# Altium schematic symbol library kmilo17pet-LT_OpAmp_LT2000.SchLib: 1710 symbols (part 46 of 75)
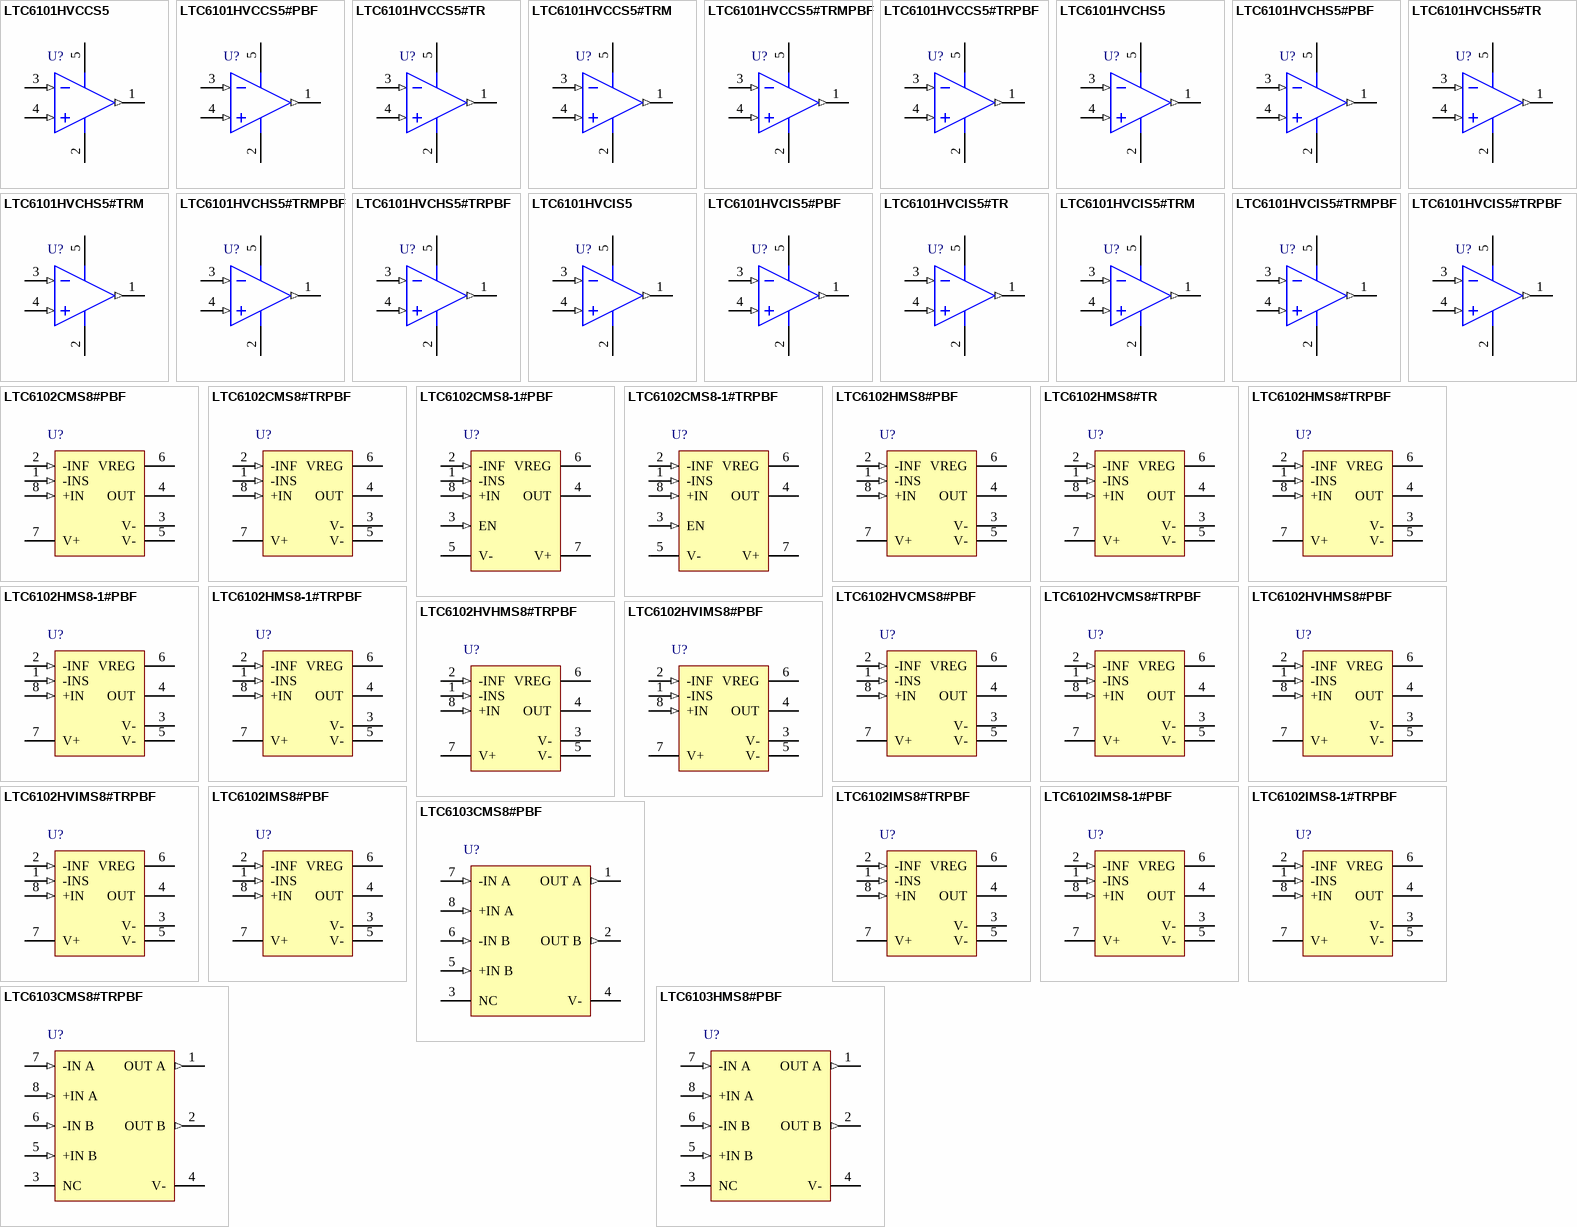
[diagram p125: symbols LTC6101HVCCS5 to LTC6103HMS8#PBF]

## LTC6101HVCHS5#PBF
designator U?
Single Channel, High Voltage, High-Side Current Sense Operational Amplifier, 0.2 MHz Typical GBW, 4 to 60 V, 5-Pin SOT23 (S5-5), High Temperature / Automotive, Pb-Free; Linear Technology Part Number: LTC6101HV; Manufacturer: Linear Technology; PartNumber: LTC6101HVCHS5#PBF; Channels (#): 1; GBW (MHz) Typical: 0.2; Is (mA) Typical: 0.22; Vos (mV) Typical: 0.15; Vs Max (V): 60; Vs Min (V): 4; DatasheetVersion: Rev. H; PackageReference: LT-S5-5-TSOT-23; PackageDescription: 5-Lead Plastic TSOT-23, Body 1.63 x 2.90 mm, Pitch 0.95 mm; RoHS: Pb-Free; Type: CSA; Mounting Technology: Surface Mount; Code_JEDEC: MO-193; ComponentLink1Description: Manufacturer URL; ComponentLink1URL: http://www.linear.com/; ComponentLink2Description: Datasheet; ComponentLink2URL: http://cds.linear.com/docs/en/datasheet/6101fh.pdf; ComponentLink3Description: Package Specification; ComponentLink3URL: http://cds.linear.com/docs/en/packaging/SOT_5_05-08-1635.pdf
footprint LT-S5-5-TSOT-23_N (SOT23, 5-Leads, Body 2.90x1.63mm, Pitch 0.95mm, IPC Medium Density)
footprint LT-S5-5-TSOT-23_L (SOT23, 5-Leads, Body 2.90x1.63mm, Pitch 0.95mm, IPC High Density)
footprint LT-S5-5-TSOT-23_M (SOT23, 5-Leads, Body 2.90x1.63mm, Pitch 0.95mm, IPC Low Density)
pins: 1 OUT (out) "Current Output. OUT will source a current that is proportional to the sense voltage into an external resistor", 2 V- (power) "Normally Connected to Ground", 3 -IN (in) "The internal sense amplifi er will drive -IN to the same potential as +IN. A resistor (RIN) tied from V+ to -IN sets the output current IOUT = VSENSE/RIN. VSENSE is the voltage developed across RSENSE", 4 +IN (in) "Must be tied to the system load end of the sense resistor, either directly or through a resistor", 5 V+ (power) "Positive Supply Pin. The V+ pin should be connected directly to either side of the sense resistor, RSENSE. Supply current is drawn through this pin. The circuit may be confi gured so that the LT6106 supply current is or is (See Datasheet)"

## LTC6101HVCHS5#TR
designator U?
Single Channel, High Voltage, High-Side Current Sense Operational Amplifier, 0.2 MHz Typical GBW, 4 to 60 V, 5-Pin SOT23 (S5-5), High Temperature / Automotive, Reel; Linear Technology Part Number: LTC6101HV; Manufacturer: Linear Technology; PartNumber: LTC6101HVCHS5#TR; Channels (#): 1; GBW (MHz) Typical: 0.2; Is (mA) Typical: 0.22; Vos (mV) Typical: 0.15; Vs Max (V): 60; Vs Min (V): 4; DatasheetVersion: Rev. H; PackageReference: LT-S5-5-TSOT-23; PackageDescription: 5-Lead Plastic TSOT-23, Body 1.63 x 2.90 mm, Pitch 0.95 mm; Packing: Reel; Type: CSA; Mounting Technology: Surface Mount; Code_JEDEC: MO-193; ComponentLink1Description: Manufacturer URL; ComponentLink1URL: http://www.linear.com/; ComponentLink2Description: Datasheet; ComponentLink2URL: http://cds.linear.com/docs/en/datasheet/6101fh.pdf; ComponentLink3Description: Package Specification; ComponentLink3URL: http://cds.linear.com/docs/en/packaging/SOT_5_05-08-1635.pdf
footprint LT-S5-5-TSOT-23_N (SOT23, 5-Leads, Body 2.90x1.63mm, Pitch 0.95mm, IPC Medium Density)
footprint LT-S5-5-TSOT-23_L (SOT23, 5-Leads, Body 2.90x1.63mm, Pitch 0.95mm, IPC High Density)
footprint LT-S5-5-TSOT-23_M (SOT23, 5-Leads, Body 2.90x1.63mm, Pitch 0.95mm, IPC Low Density)
pins: 1 OUT (out) "Current Output. OUT will source a current that is proportional to the sense voltage into an external resistor", 2 V- (power) "Normally Connected to Ground", 3 -IN (in) "The internal sense amplifi er will drive -IN to the same potential as +IN. A resistor (RIN) tied from V+ to -IN sets the output current IOUT = VSENSE/RIN. VSENSE is the voltage developed across RSENSE", 4 +IN (in) "Must be tied to the system load end of the sense resistor, either directly or through a resistor", 5 V+ (power) "Positive Supply Pin. The V+ pin should be connected directly to either side of the sense resistor, RSENSE. Supply current is drawn through this pin. The circuit may be confi gured so that the LT6106 supply current is or is (See Datasheet)"

## LTC6101HVCHS5#TRM
designator U?
Single Channel, High Voltage, High-Side Current Sense Operational Amplifier, 0.2 MHz Typical GBW, 4 to 60 V, 5-Pin SOT23 (S5-5), High Temperature / Automotive, Mini Reel; Linear Technology Part Number: LTC6101HV; Manufacturer: Linear Technology; PartNumber: LTC6101HVCHS5#TRM; Channels (#): 1; GBW (MHz) Typical: 0.2; Is (mA) Typical: 0.22; Vos (mV) Typical: 0.15; Vs Max (V): 60; Vs Min (V): 4; DatasheetVersion: Rev. H; PackageReference: LT-S5-5-TSOT-23; PackageDescription: 5-Lead Plastic TSOT-23, Body 1.63 x 2.90 mm, Pitch 0.95 mm; Packing: Mini Reel; Type: CSA; Mounting Technology: Surface Mount; Code_JEDEC: MO-193; ComponentLink1Description: Manufacturer URL; ComponentLink1URL: http://www.linear.com/; ComponentLink2Description: Datasheet; ComponentLink2URL: http://cds.linear.com/docs/en/datasheet/6101fh.pdf; ComponentLink3Description: Package Specification; ComponentLink3URL: http://cds.linear.com/docs/en/packaging/SOT_5_05-08-1635.pdf
footprint LT-S5-5-TSOT-23_N (SOT23, 5-Leads, Body 2.90x1.63mm, Pitch 0.95mm, IPC Medium Density)
footprint LT-S5-5-TSOT-23_L (SOT23, 5-Leads, Body 2.90x1.63mm, Pitch 0.95mm, IPC High Density)
footprint LT-S5-5-TSOT-23_M (SOT23, 5-Leads, Body 2.90x1.63mm, Pitch 0.95mm, IPC Low Density)
pins: 1 OUT (out) "Current Output. OUT will source a current that is proportional to the sense voltage into an external resistor", 2 V- (power) "Normally Connected to Ground", 3 -IN (in) "The internal sense amplifi er will drive -IN to the same potential as +IN. A resistor (RIN) tied from V+ to -IN sets the output current IOUT = VSENSE/RIN. VSENSE is the voltage developed across RSENSE", 4 +IN (in) "Must be tied to the system load end of the sense resistor, either directly or through a resistor", 5 V+ (power) "Positive Supply Pin. The V+ pin should be connected directly to either side of the sense resistor, RSENSE. Supply current is drawn through this pin. The circuit may be confi gured so that the LT6106 supply current is or is (See Datasheet)"

## LTC6101HVCHS5#TRMPBF
designator U?
Single Channel, High Voltage, High-Side Current Sense Operational Amplifier, 0.2 MHz Typical GBW, 4 to 60 V, 5-Pin SOT23 (S5-5), High Temperature / Automotive, Pb-Free, Mini Reel; Linear Technology Part Number: LTC6101HV; Manufacturer: Linear Technology; PartNumber: LTC6101HVCHS5#TRMPBF; Channels (#): 1; GBW (MHz) Typical: 0.2; Is (mA) Typical: 0.22; Vos (mV) Typical: 0.15; Vs Max (V): 60; Vs Min (V): 4; DatasheetVersion: Rev. H; PackageReference: LT-S5-5-TSOT-23; PackageDescription: 5-Lead Plastic TSOT-23, Body 1.63 x 2.90 mm, Pitch 0.95 mm; Supplier 1: Digi-Key; Supplier Part Number 1: LTC6101HVCHS5#TRMPBF-ND; Packing: Mini Reel; RoHS: Pb-Free; Type: CSA; Mounting Technology: Surface Mount; Code_JEDEC: MO-193; ComponentLink1Description: Manufacturer URL; ComponentLink1URL: http://www.linear.com/; ComponentLink2Description: Datasheet; ComponentLink2URL: http://cds.linear.com/docs/en/datasheet/6101fh.pdf; ComponentLink3Description: Package Specification; ComponentLink3URL: http://cds.linear.com/docs/en/packaging/SOT_5_05-08-1635.pdf
footprint LT-S5-5-TSOT-23_N (SOT23, 5-Leads, Body 2.90x1.63mm, Pitch 0.95mm, IPC Medium Density)
footprint LT-S5-5-TSOT-23_L (SOT23, 5-Leads, Body 2.90x1.63mm, Pitch 0.95mm, IPC High Density)
footprint LT-S5-5-TSOT-23_M (SOT23, 5-Leads, Body 2.90x1.63mm, Pitch 0.95mm, IPC Low Density)
pins: 1 OUT (out) "Current Output. OUT will source a current that is proportional to the sense voltage into an external resistor", 2 V- (power) "Normally Connected to Ground", 3 -IN (in) "The internal sense amplifi er will drive -IN to the same potential as +IN. A resistor (RIN) tied from V+ to -IN sets the output current IOUT = VSENSE/RIN. VSENSE is the voltage developed across RSENSE", 4 +IN (in) "Must be tied to the system load end of the sense resistor, either directly or through a resistor", 5 V+ (power) "Positive Supply Pin. The V+ pin should be connected directly to either side of the sense resistor, RSENSE. Supply current is drawn through this pin. The circuit may be confi gured so that the LT6106 supply current is or is (See Datasheet)"

## LTC6101HVCHS5#TRPBF
designator U?
Single Channel, High Voltage, High-Side Current Sense Operational Amplifier, 0.2 MHz Typical GBW, 4 to 60 V, 5-Pin SOT23 (S5-5), High Temperature / Automotive, Pb-Free, Reel; Linear Technology Part Number: LTC6101HV; Manufacturer: Linear Technology; PartNumber: LTC6101HVCHS5#TRPBF; Channels (#): 1; GBW (MHz) Typical: 0.2; Is (mA) Typical: 0.22; Vos (mV) Typical: 0.15; Vs Max (V): 60; Vs Min (V): 4; DatasheetVersion: Rev. H; PackageReference: LT-S5-5-TSOT-23; PackageDescription: 5-Lead Plastic TSOT-23, Body 1.63 x 2.90 mm, Pitch 0.95 mm; Supplier 1: Digi-Key; Supplier Part Number 1: LTC6101HVCHS5#TRPBF-ND; Packing: Reel; RoHS: Pb-Free; Type: CSA; Mounting Technology: Surface Mount; Code_JEDEC: MO-193; ComponentLink1Description: Manufacturer URL; ComponentLink1URL: http://www.linear.com/; ComponentLink2Description: Datasheet; ComponentLink2URL: http://cds.linear.com/docs/en/datasheet/6101fh.pdf; ComponentLink3Description: Package Specification; ComponentLink3URL: http://cds.linear.com/docs/en/packaging/SOT_5_05-08-1635.pdf
footprint LT-S5-5-TSOT-23_N (SOT23, 5-Leads, Body 2.90x1.63mm, Pitch 0.95mm, IPC Medium Density)
footprint LT-S5-5-TSOT-23_L (SOT23, 5-Leads, Body 2.90x1.63mm, Pitch 0.95mm, IPC High Density)
footprint LT-S5-5-TSOT-23_M (SOT23, 5-Leads, Body 2.90x1.63mm, Pitch 0.95mm, IPC Low Density)
pins: 1 OUT (out) "Current Output. OUT will source a current that is proportional to the sense voltage into an external resistor", 2 V- (power) "Normally Connected to Ground", 3 -IN (in) "The internal sense amplifi er will drive -IN to the same potential as +IN. A resistor (RIN) tied from V+ to -IN sets the output current IOUT = VSENSE/RIN. VSENSE is the voltage developed across RSENSE", 4 +IN (in) "Must be tied to the system load end of the sense resistor, either directly or through a resistor", 5 V+ (power) "Positive Supply Pin. The V+ pin should be connected directly to either side of the sense resistor, RSENSE. Supply current is drawn through this pin. The circuit may be confi gured so that the LT6106 supply current is or is (See Datasheet)"

## LTC6101HVCIS5
designator U?
Single Channel, High Voltage, High-Side Current Sense Operational Amplifier, 0.2 MHz Typical GBW, 4 to 60 V, 5-Pin SOT23 (S5-5), Industrial; Linear Technology Part Number: LTC6101HV; Manufacturer: Linear Technology; PartNumber: LTC6101HVCIS5; Channels (#): 1; GBW (MHz) Typical: 0.2; Is (mA) Typical: 0.22; Vos (mV) Typical: 0.15; Vs Max (V): 60; Vs Min (V): 4; DatasheetVersion: Rev. H; PackageReference: LT-S5-5-TSOT-23; PackageDescription: 5-Lead Plastic TSOT-23, Body 1.63 x 2.90 mm, Pitch 0.95 mm; Type: CSA; Mounting Technology: Surface Mount; Code_JEDEC: MO-193; ComponentLink1Description: Manufacturer URL; ComponentLink1URL: http://www.linear.com/; ComponentLink2Description: Datasheet; ComponentLink2URL: http://cds.linear.com/docs/en/datasheet/6101fh.pdf; ComponentLink3Description: Package Specification; ComponentLink3URL: http://cds.linear.com/docs/en/packaging/SOT_5_05-08-1635.pdf
footprint LT-S5-5-TSOT-23_N (SOT23, 5-Leads, Body 2.90x1.63mm, Pitch 0.95mm, IPC Medium Density)
footprint LT-S5-5-TSOT-23_L (SOT23, 5-Leads, Body 2.90x1.63mm, Pitch 0.95mm, IPC High Density)
footprint LT-S5-5-TSOT-23_M (SOT23, 5-Leads, Body 2.90x1.63mm, Pitch 0.95mm, IPC Low Density)
pins: 1 OUT (out) "Current Output. OUT will source a current that is proportional to the sense voltage into an external resistor", 2 V- (power) "Normally Connected to Ground", 3 -IN (in) "The internal sense amplifi er will drive -IN to the same potential as +IN. A resistor (RIN) tied from V+ to -IN sets the output current IOUT = VSENSE/RIN. VSENSE is the voltage developed across RSENSE", 4 +IN (in) "Must be tied to the system load end of the sense resistor, either directly or through a resistor", 5 V+ (power) "Positive Supply Pin. The V+ pin should be connected directly to either side of the sense resistor, RSENSE. Supply current is drawn through this pin. The circuit may be confi gured so that the LT6106 supply current is or is (See Datasheet)"

## LTC6101HVCIS5#PBF
designator U?
Single Channel, High Voltage, High-Side Current Sense Operational Amplifier, 0.2 MHz Typical GBW, 4 to 60 V, 5-Pin SOT23 (S5-5), Industrial, Pb-Free; Linear Technology Part Number: LTC6101HV; Manufacturer: Linear Technology; PartNumber: LTC6101HVCIS5#PBF; Channels (#): 1; GBW (MHz) Typical: 0.2; Is (mA) Typical: 0.22; Vos (mV) Typical: 0.15; Vs Max (V): 60; Vs Min (V): 4; DatasheetVersion: Rev. H; PackageReference: LT-S5-5-TSOT-23; PackageDescription: 5-Lead Plastic TSOT-23, Body 1.63 x 2.90 mm, Pitch 0.95 mm; Supplier 1: Farnell; Supplier Part Number 1: 2294767; Supplier 2: Newark; Supplier Part Number 2: 78T3458; RoHS: Pb-Free; Type: CSA; Mounting Technology: Surface Mount; Code_JEDEC: MO-193; ComponentLink1Description: Manufacturer URL; ComponentLink1URL: http://www.linear.com/; ComponentLink2Description: Datasheet; ComponentLink2URL: http://cds.linear.com/docs/en/datasheet/6101fh.pdf; ComponentLink3Description: Package Specification; ComponentLink3URL: http://cds.linear.com/docs/en/packaging/SOT_5_05-08-1635.pdf
footprint LT-S5-5-TSOT-23_N (SOT23, 5-Leads, Body 2.90x1.63mm, Pitch 0.95mm, IPC Medium Density)
footprint LT-S5-5-TSOT-23_L (SOT23, 5-Leads, Body 2.90x1.63mm, Pitch 0.95mm, IPC High Density)
footprint LT-S5-5-TSOT-23_M (SOT23, 5-Leads, Body 2.90x1.63mm, Pitch 0.95mm, IPC Low Density)
pins: 1 OUT (out) "Current Output. OUT will source a current that is proportional to the sense voltage into an external resistor", 2 V- (power) "Normally Connected to Ground", 3 -IN (in) "The internal sense amplifi er will drive -IN to the same potential as +IN. A resistor (RIN) tied from V+ to -IN sets the output current IOUT = VSENSE/RIN. VSENSE is the voltage developed across RSENSE", 4 +IN (in) "Must be tied to the system load end of the sense resistor, either directly or through a resistor", 5 V+ (power) "Positive Supply Pin. The V+ pin should be connected directly to either side of the sense resistor, RSENSE. Supply current is drawn through this pin. The circuit may be confi gured so that the LT6106 supply current is or is (See Datasheet)"

## LTC6101HVCIS5#TR
designator U?
Single Channel, High Voltage, High-Side Current Sense Operational Amplifier, 0.2 MHz Typical GBW, 4 to 60 V, 5-Pin SOT23 (S5-5), Industrial, Reel; Linear Technology Part Number: LTC6101HV; Manufacturer: Linear Technology; PartNumber: LTC6101HVCIS5#TR; Channels (#): 1; GBW (MHz) Typical: 0.2; Is (mA) Typical: 0.22; Vos (mV) Typical: 0.15; Vs Max (V): 60; Vs Min (V): 4; DatasheetVersion: Rev. H; PackageReference: LT-S5-5-TSOT-23; PackageDescription: 5-Lead Plastic TSOT-23, Body 1.63 x 2.90 mm, Pitch 0.95 mm; Packing: Reel; Type: CSA; Mounting Technology: Surface Mount; Code_JEDEC: MO-193; ComponentLink1Description: Manufacturer URL; ComponentLink1URL: http://www.linear.com/; ComponentLink2Description: Datasheet; ComponentLink2URL: http://cds.linear.com/docs/en/datasheet/6101fh.pdf; ComponentLink3Description: Package Specification; ComponentLink3URL: http://cds.linear.com/docs/en/packaging/SOT_5_05-08-1635.pdf
footprint LT-S5-5-TSOT-23_N (SOT23, 5-Leads, Body 2.90x1.63mm, Pitch 0.95mm, IPC Medium Density)
footprint LT-S5-5-TSOT-23_L (SOT23, 5-Leads, Body 2.90x1.63mm, Pitch 0.95mm, IPC High Density)
footprint LT-S5-5-TSOT-23_M (SOT23, 5-Leads, Body 2.90x1.63mm, Pitch 0.95mm, IPC Low Density)
pins: 1 OUT (out) "Current Output. OUT will source a current that is proportional to the sense voltage into an external resistor", 2 V- (power) "Normally Connected to Ground", 3 -IN (in) "The internal sense amplifi er will drive -IN to the same potential as +IN. A resistor (RIN) tied from V+ to -IN sets the output current IOUT = VSENSE/RIN. VSENSE is the voltage developed across RSENSE", 4 +IN (in) "Must be tied to the system load end of the sense resistor, either directly or through a resistor", 5 V+ (power) "Positive Supply Pin. The V+ pin should be connected directly to either side of the sense resistor, RSENSE. Supply current is drawn through this pin. The circuit may be confi gured so that the LT6106 supply current is or is (See Datasheet)"

## LTC6101HVCIS5#TRM
designator U?
Single Channel, High Voltage, High-Side Current Sense Operational Amplifier, 0.2 MHz Typical GBW, 4 to 60 V, 5-Pin SOT23 (S5-5), Industrial, Mini Reel; Linear Technology Part Number: LTC6101HV; Manufacturer: Linear Technology; PartNumber: LTC6101HVCIS5#TRM; Channels (#): 1; GBW (MHz) Typical: 0.2; Is (mA) Typical: 0.22; Vos (mV) Typical: 0.15; Vs Max (V): 60; Vs Min (V): 4; DatasheetVersion: Rev. H; PackageReference: LT-S5-5-TSOT-23; PackageDescription: 5-Lead Plastic TSOT-23, Body 1.63 x 2.90 mm, Pitch 0.95 mm; Packing: Mini Reel; Type: CSA; Mounting Technology: Surface Mount; Code_JEDEC: MO-193; ComponentLink1Description: Manufacturer URL; ComponentLink1URL: http://www.linear.com/; ComponentLink2Description: Datasheet; ComponentLink2URL: http://cds.linear.com/docs/en/datasheet/6101fh.pdf; ComponentLink3Description: Package Specification; ComponentLink3URL: http://cds.linear.com/docs/en/packaging/SOT_5_05-08-1635.pdf
footprint LT-S5-5-TSOT-23_N (SOT23, 5-Leads, Body 2.90x1.63mm, Pitch 0.95mm, IPC Medium Density)
footprint LT-S5-5-TSOT-23_L (SOT23, 5-Leads, Body 2.90x1.63mm, Pitch 0.95mm, IPC High Density)
footprint LT-S5-5-TSOT-23_M (SOT23, 5-Leads, Body 2.90x1.63mm, Pitch 0.95mm, IPC Low Density)
pins: 1 OUT (out) "Current Output. OUT will source a current that is proportional to the sense voltage into an external resistor", 2 V- (power) "Normally Connected to Ground", 3 -IN (in) "The internal sense amplifi er will drive -IN to the same potential as +IN. A resistor (RIN) tied from V+ to -IN sets the output current IOUT = VSENSE/RIN. VSENSE is the voltage developed across RSENSE", 4 +IN (in) "Must be tied to the system load end of the sense resistor, either directly or through a resistor", 5 V+ (power) "Positive Supply Pin. The V+ pin should be connected directly to either side of the sense resistor, RSENSE. Supply current is drawn through this pin. The circuit may be confi gured so that the LT6106 supply current is or is (See Datasheet)"

## LTC6101HVCIS5#TRMPBF
designator U?
Single Channel, High Voltage, High-Side Current Sense Operational Amplifier, 0.2 MHz Typical GBW, 4 to 60 V, 5-Pin SOT23 (S5-5), Industrial, Pb-Free, Mini Reel; Linear Technology Part Number: LTC6101HV; Manufacturer: Linear Technology; PartNumber: LTC6101HVCIS5#TRMPBF; Channels (#): 1; GBW (MHz) Typical: 0.2; Is (mA) Typical: 0.22; Vos (mV) Typical: 0.15; Vs Max (V): 60; Vs Min (V): 4; DatasheetVersion: Rev. H; PackageReference: LT-S5-5-TSOT-23; PackageDescription: 5-Lead Plastic TSOT-23, Body 1.63 x 2.90 mm, Pitch 0.95 mm; Supplier 1: Digi-Key; Supplier Part Number 1: LTC6101HVCIS5#TRMPBF-ND; Packing: Mini Reel; RoHS: Pb-Free; Type: CSA; Mounting Technology: Surface Mount; Code_JEDEC: MO-193; ComponentLink1Description: Manufacturer URL; ComponentLink1URL: http://www.linear.com/; ComponentLink2Description: Datasheet; ComponentLink2URL: http://cds.linear.com/docs/en/datasheet/6101fh.pdf; ComponentLink3Description: Package Specification; ComponentLink3URL: http://cds.linear.com/docs/en/packaging/SOT_5_05-08-1635.pdf
footprint LT-S5-5-TSOT-23_N (SOT23, 5-Leads, Body 2.90x1.63mm, Pitch 0.95mm, IPC Medium Density)
footprint LT-S5-5-TSOT-23_L (SOT23, 5-Leads, Body 2.90x1.63mm, Pitch 0.95mm, IPC High Density)
footprint LT-S5-5-TSOT-23_M (SOT23, 5-Leads, Body 2.90x1.63mm, Pitch 0.95mm, IPC Low Density)
pins: 1 OUT (out) "Current Output. OUT will source a current that is proportional to the sense voltage into an external resistor", 2 V- (power) "Normally Connected to Ground", 3 -IN (in) "The internal sense amplifi er will drive -IN to the same potential as +IN. A resistor (RIN) tied from V+ to -IN sets the output current IOUT = VSENSE/RIN. VSENSE is the voltage developed across RSENSE", 4 +IN (in) "Must be tied to the system load end of the sense resistor, either directly or through a resistor", 5 V+ (power) "Positive Supply Pin. The V+ pin should be connected directly to either side of the sense resistor, RSENSE. Supply current is drawn through this pin. The circuit may be confi gured so that the LT6106 supply current is or is (See Datasheet)"

## LTC6101HVCIS5#TRPBF
designator U?
Single Channel, High Voltage, High-Side Current Sense Operational Amplifier, 0.2 MHz Typical GBW, 4 to 60 V, 5-Pin SOT23 (S5-5), Industrial, Pb-Free, Reel; Linear Technology Part Number: LTC6101HV; Manufacturer: Linear Technology; PartNumber: LTC6101HVCIS5#TRPBF; Channels (#): 1; GBW (MHz) Typical: 0.2; Is (mA) Typical: 0.22; Vos (mV) Typical: 0.15; Vs Max (V): 60; Vs Min (V): 4; DatasheetVersion: Rev. H; PackageReference: LT-S5-5-TSOT-23; PackageDescription: 5-Lead Plastic TSOT-23, Body 1.63 x 2.90 mm, Pitch 0.95 mm; Supplier 1: Digi-Key; Supplier Part Number 1: LTC6101HVCIS5#TRPBF-ND; Supplier 2: Newark; Supplier Part Number 2: 56M9923; Packing: Reel; RoHS: Pb-Free; Type: CSA; Mounting Technology: Surface Mount; Code_JEDEC: MO-193; ComponentLink1Description: Manufacturer URL; ComponentLink1URL: http://www.linear.com/; ComponentLink2Description: Datasheet; ComponentLink2URL: http://cds.linear.com/docs/en/datasheet/6101fh.pdf; ComponentLink3Description: Package Specification; ComponentLink3URL: http://cds.linear.com/docs/en/packaging/SOT_5_05-08-1635.pdf
footprint LT-S5-5-TSOT-23_N (SOT23, 5-Leads, Body 2.90x1.63mm, Pitch 0.95mm, IPC Medium Density)
footprint LT-S5-5-TSOT-23_L (SOT23, 5-Leads, Body 2.90x1.63mm, Pitch 0.95mm, IPC High Density)
footprint LT-S5-5-TSOT-23_M (SOT23, 5-Leads, Body 2.90x1.63mm, Pitch 0.95mm, IPC Low Density)
pins: 1 OUT (out) "Current Output. OUT will source a current that is proportional to the sense voltage into an external resistor", 2 V- (power) "Normally Connected to Ground", 3 -IN (in) "The internal sense amplifi er will drive -IN to the same potential as +IN. A resistor (RIN) tied from V+ to -IN sets the output current IOUT = VSENSE/RIN. VSENSE is the voltage developed across RSENSE", 4 +IN (in) "Must be tied to the system load end of the sense resistor, either directly or through a resistor", 5 V+ (power) "Positive Supply Pin. The V+ pin should be connected directly to either side of the sense resistor, RSENSE. Supply current is drawn through this pin. The circuit may be confi gured so that the LT6106 supply current is or is (See Datasheet)"

## LTC6102CMS8#PBF
designator U?
Single Channel, Precision, Zero Drift Current Sense Operational Amplifier, 0.14 MHz Typical GBW, 4 to 60 V, 8-Pin SOP (MS8-8), Commercial, Pb-Free; Linear Technology Part Number: LTC6102; Manufacturer: Linear Technology; PartNumber: LTC6102CMS8#PBF; Channels (#): 1; GBW (MHz) Typical: 0.14; Is (mA) Typical: 0.275; Vos (mV) Typical: 0.003; Vs Max (V): 60; Vs Min (V): 4; DatasheetVersion: Rev. D; PackageVersion: Rev G; PackageReference: LT-MS8-8; PackageDescription: 8-Lead Plastic Small Outline, Body 3.9 x 4.9 mm, Pitch 1.27 mm; Supplier 1: Digi-Key; Supplier Part Number 1: LTC6102CMS8#PBF-ND; Supplier 2: Farnell; Supplier Part Number 2: 1417725; Supplier 3: Newark; Supplier Part Number 3: 56M9926; RoHS: Pb-Free; Type: CSA; Mounting Technology: Surface Mount; ComponentLink1Description: Manufacturer URL; ComponentLink1URL: http://www.linear.com/; ComponentLink2Description: Datasheet; ComponentLink2URL: http://cds.linear.com/docs/en/datasheet/6102fd.pdf; ComponentLink3Description: Package Specification; ComponentLink3URL: http://cds.linear.com/docs/en/packaging/05081610_G_SO8.pdf
footprint LT-MS8-8_N (SOP, 8-Leads, Body 3x3mm, Pitch 0.65mm, IPC Medium Density)
footprint LT-MS8-8_L (SOP, 8-Leads, Body 3x3mm, Pitch 0.65mm, IPC High Density)
footprint LT-MS8-8_M (SOP, 8-Leads, Body 3x3mm, Pitch 0.65mm, IPC Low Density)
pins: 1 -INS (in) "Ampli? er Inverting Input. When tied to -INF, the internal sense ampli? er will drive -INS to the same potential as +IN.", 2 -INF (in) "Force Input. This pin carries the input current from RIN and must be tied to -INS near RIN. A resistor (RIN) tied from V+ to -INF sets the output current IOUT = VSENSE/RIN. VSENSE is the voltage across the external RSENSE.", 3 V- (power) "Negative Supply.", 4 OUT (oc) "Open-Drain Current output. OUT will source a current that is proportional to the sense voltage into an external resistor. IOUT is the same current that enters -INF", 5 V- (power) "Negative Supply", 6 VREG (power) "Internal Regulated Supply. A 0.1uF (or larger) capacitor should be tied from VREG to V+. VREG is not designed to drive external circuits.", 7 V+ (power) "Positive Supply. Supply current is drawn through this pin.", 8 +IN (in) "Ampli?er Noninverting Input. Must be tied to the system load end of the sense resistor. The +IN pin has an internal 5k series resistor designed to allow large input voltage transients or accidental disconnection of the sense (See Datasheet)"

## LTC6102CMS8#TRPBF
designator U?
Single Channel, Precision, Zero Drift Current Sense Operational Amplifier, 0.14 MHz Typical GBW, 4 to 60 V, 8-Pin SOP (MS8-8), Commercial, Pb-Free, Reel; Linear Technology Part Number: LTC6102; Manufacturer: Linear Technology; PartNumber: LTC6102CMS8#TRPBF; Channels (#): 1; GBW (MHz) Typical: 0.14; Is (mA) Typical: 0.275; Vos (mV) Typical: 0.003; Vs Max (V): 60; Vs Min (V): 4; DatasheetVersion: Rev. D; PackageVersion: Rev G; PackageReference: LT-MS8-8; PackageDescription: 8-Lead Plastic Small Outline, Body 3.9 x 4.9 mm, Pitch 1.27 mm; Supplier 1: Digi-Key; Supplier Part Number 1: LTC6102CMS8#TRPBF-ND; Supplier 2: Newark; Supplier Part Number 2: 56M9927; Packing: Reel; RoHS: Pb-Free; Type: CSA; Mounting Technology: Surface Mount; ComponentLink1Description: Manufacturer URL; ComponentLink1URL: http://www.linear.com/; ComponentLink2Description: Datasheet; ComponentLink2URL: http://cds.linear.com/docs/en/datasheet/6102fd.pdf; ComponentLink3Description: Package Specification; ComponentLink3URL: http://cds.linear.com/docs/en/packaging/05081610_G_SO8.pdf
footprint LT-MS8-8_N (SOP, 8-Leads, Body 3x3mm, Pitch 0.65mm, IPC Medium Density)
footprint LT-MS8-8_L (SOP, 8-Leads, Body 3x3mm, Pitch 0.65mm, IPC High Density)
footprint LT-MS8-8_M (SOP, 8-Leads, Body 3x3mm, Pitch 0.65mm, IPC Low Density)
pins: 1 -INS (in) "Ampli? er Inverting Input. When tied to -INF, the internal sense ampli? er will drive -INS to the same potential as +IN.", 2 -INF (in) "Force Input. This pin carries the input current from RIN and must be tied to -INS near RIN. A resistor (RIN) tied from V+ to -INF sets the output current IOUT = VSENSE/RIN. VSENSE is the voltage across the external RSENSE.", 3 V- (power) "Negative Supply.", 4 OUT (oc) "Open-Drain Current output. OUT will source a current that is proportional to the sense voltage into an external resistor. IOUT is the same current that enters -INF", 5 V- (power) "Negative Supply", 6 VREG (power) "Internal Regulated Supply. A 0.1uF (or larger) capacitor should be tied from VREG to V+. VREG is not designed to drive external circuits.", 7 V+ (power) "Positive Supply. Supply current is drawn through this pin.", 8 +IN (in) "Ampli?er Noninverting Input. Must be tied to the system load end of the sense resistor. The +IN pin has an internal 5k series resistor designed to allow large input voltage transients or accidental disconnection of the sense (See Datasheet)"

## LTC6102CMS8-1#PBF
designator U?
Single Channel, Precision, Zero Drift Current Sense Operational Amplifier, 0.14 MHz Typical GBW, 4 to 60 V, 8-Pin SOP (MS8-8), Commercial, Pb-Free; Linear Technology Part Number: LTC6102; Manufacturer: Linear Technology; PartNumber: LTC6102CMS8-1#PBF; Channels (#): 1; GBW (MHz) Typical: 0.14; Is (mA) Typical: 0.275; Vos (mV) Typical: 0.003; Vs Max (V): 60; Vs Min (V): 4; DatasheetVersion: Rev. D; PackageVersion: Rev G; PackageReference: LT-MS8-8; PackageDescription: 8-Lead Plastic Small Outline, Body 3.9 x 4.9 mm, Pitch 1.27 mm; Supplier 1: Digi-Key; Supplier Part Number 1: LTC6102CMS8-1#PBF-ND; Supplier 2: Newark; Supplier Part Number 2: 71P2238; RoHS: Pb-Free; Type: CSA; Mounting Technology: Surface Mount; ComponentLink1Description: Manufacturer URL; ComponentLink1URL: http://www.linear.com/; ComponentLink2Description: Datasheet; ComponentLink2URL: http://cds.linear.com/docs/en/datasheet/6102fd.pdf; ComponentLink3Description: Package Specification; ComponentLink3URL: http://cds.linear.com/docs/en/packaging/05081610_G_SO8.pdf
footprint LT-MS8-8_N (SOP, 8-Leads, Body 3x3mm, Pitch 0.65mm, IPC Medium Density)
footprint LT-MS8-8_L (SOP, 8-Leads, Body 3x3mm, Pitch 0.65mm, IPC High Density)
footprint LT-MS8-8_M (SOP, 8-Leads, Body 3x3mm, Pitch 0.65mm, IPC Low Density)
pins: 1 -INS (in) "Amplifier Inverting Input. When tied to -INF, the internal sense amplifi er will drive -INS to the same potential as +IN.", 2 -INF (in) "Force Input. This pin carries the input current from RIN and must be tied to -INS near RIN. A resistor (RIN) tied from V+ to -INF sets the output current IOUT = VSENSE/RIN. VSENSE is the voltage across the external RSENSE.", 3 EN (in) "Enable Pin, Referenced to the Negative Supply. When the enable pin is pulled high, the LTC6102-1 is active. When the enable pin is pulled low or left floating, the LTC6102-1 is disabled.", 4 OUT (oe) "Open-Drain Current output. OUT will source a current that is proportional to the sense voltage into an external resistor. IOUT is the same current that enters -INF.", 5 V- (power) "Negative Supply.", 6 VREG (power) "Internal Regulated Supply. A 0.1uF (or larger) capacitor should be tied from VREG to V+. VREG is not designed to drive external circuits.", 7 V+ (power) "Positive Supply. Supply current is drawn through this pin.", 8 +IN (in) "Amplifier Noninverting Input. Must be tied to the system load end of the sense resistor. The +IN pin has an internal 5k series resistor designed to allow large input voltage transients or accidental disconnection of the (See Datasheet)"

## LTC6102CMS8-1#TRPBF
designator U?
Single Channel, Precision, Zero Drift Current Sense Operational Amplifier, 0.14 MHz Typical GBW, 4 to 60 V, 8-Pin SOP (MS8-8), Commercial, Pb-Free, Reel; Linear Technology Part Number: LTC6102; Manufacturer: Linear Technology; PartNumber: LTC6102CMS8-1#TRPBF; Channels (#): 1; GBW (MHz) Typical: 0.14; Is (mA) Typical: 0.275; Vos (mV) Typical: 0.003; Vs Max (V): 60; Vs Min (V): 4; DatasheetVersion: Rev. D; PackageVersion: Rev G; PackageReference: LT-MS8-8; PackageDescription: 8-Lead Plastic Small Outline, Body 3.9 x 4.9 mm, Pitch 1.27 mm; Supplier 1: Digi-Key; Supplier Part Number 1: LTC6102CMS8-1#TRPBF-ND; Packing: Reel; RoHS: Pb-Free; Type: CSA; Mounting Technology: Surface Mount; ComponentLink1Description: Manufacturer URL; ComponentLink1URL: http://www.linear.com/; ComponentLink2Description: Datasheet; ComponentLink2URL: http://cds.linear.com/docs/en/datasheet/6102fd.pdf; ComponentLink3Description: Package Specification; ComponentLink3URL: http://cds.linear.com/docs/en/packaging/05081610_G_SO8.pdf
footprint LT-MS8-8_N (SOP, 8-Leads, Body 3x3mm, Pitch 0.65mm, IPC Medium Density)
footprint LT-MS8-8_L (SOP, 8-Leads, Body 3x3mm, Pitch 0.65mm, IPC High Density)
footprint LT-MS8-8_M (SOP, 8-Leads, Body 3x3mm, Pitch 0.65mm, IPC Low Density)
pins: 1 -INS (in) "Amplifier Inverting Input. When tied to -INF, the internal sense amplifi er will drive -INS to the same potential as +IN.", 2 -INF (in) "Force Input. This pin carries the input current from RIN and must be tied to -INS near RIN. A resistor (RIN) tied from V+ to -INF sets the output current IOUT = VSENSE/RIN. VSENSE is the voltage across the external RSENSE.", 3 EN (in) "Enable Pin, Referenced to the Negative Supply. When the enable pin is pulled high, the LTC6102-1 is active. When the enable pin is pulled low or left floating, the LTC6102-1 is disabled.", 4 OUT (oe) "Open-Drain Current output. OUT will source a current that is proportional to the sense voltage into an external resistor. IOUT is the same current that enters -INF.", 5 V- (power) "Negative Supply.", 6 VREG (power) "Internal Regulated Supply. A 0.1uF (or larger) capacitor should be tied from VREG to V+. VREG is not designed to drive external circuits.", 7 V+ (power) "Positive Supply. Supply current is drawn through this pin.", 8 +IN (in) "Amplifier Noninverting Input. Must be tied to the system load end of the sense resistor. The +IN pin has an internal 5k series resistor designed to allow large input voltage transients or accidental disconnection of the (See Datasheet)"

## LTC6102HMS8#PBF
designator U?
Single Channel, Precision, Zero Drift Current Sense Operational Amplifier, 0.14 MHz Typical GBW, 4 to 60 V, 8-Pin SOP (MS8-8), High Temperature / Automotive, Pb-Free; Linear Technology Part Number: LTC6102; Manufacturer: Linear Technology; PartNumber: LTC6102HMS8#PBF; Channels (#): 1; GBW (MHz) Typical: 0.14; Is (mA) Typical: 0.275; Vos (mV) Typical: 0.003; Vs Max (V): 60; Vs Min (V): 4; DatasheetVersion: Rev. D; PackageVersion: Rev G; PackageReference: LT-MS8-8; PackageDescription: 8-Lead Plastic Small Outline, Body 3.9 x 4.9 mm, Pitch 1.27 mm; Supplier 1: Digi-Key; Supplier Part Number 1: LTC6102HMS8#PBF-ND; Supplier 2: Farnell; Supplier Part Number 2: 2294768; Supplier 3: Newark; Supplier Part Number 3: 56M9930; RoHS: Pb-Free; Type: CSA; Mounting Technology: Surface Mount; ComponentLink1Description: Manufacturer URL; ComponentLink1URL: http://www.linear.com/; ComponentLink2Description: Datasheet; ComponentLink2URL: http://cds.linear.com/docs/en/datasheet/6102fd.pdf; ComponentLink3Description: Package Specification; ComponentLink3URL: http://cds.linear.com/docs/en/packaging/05081610_G_SO8.pdf
footprint LT-MS8-8_N (SOP, 8-Leads, Body 3x3mm, Pitch 0.65mm, IPC Medium Density)
footprint LT-MS8-8_L (SOP, 8-Leads, Body 3x3mm, Pitch 0.65mm, IPC High Density)
footprint LT-MS8-8_M (SOP, 8-Leads, Body 3x3mm, Pitch 0.65mm, IPC Low Density)
pins: 1 -INS (in) "Ampli? er Inverting Input. When tied to -INF, the internal sense ampli? er will drive -INS to the same potential as +IN.", 2 -INF (in) "Force Input. This pin carries the input current from RIN and must be tied to -INS near RIN. A resistor (RIN) tied from V+ to -INF sets the output current IOUT = VSENSE/RIN. VSENSE is the voltage across the external RSENSE.", 3 V- (power) "Negative Supply.", 4 OUT (oc) "Open-Drain Current output. OUT will source a current that is proportional to the sense voltage into an external resistor. IOUT is the same current that enters -INF", 5 V- (power) "Negative Supply", 6 VREG (power) "Internal Regulated Supply. A 0.1uF (or larger) capacitor should be tied from VREG to V+. VREG is not designed to drive external circuits.", 7 V+ (power) "Positive Supply. Supply current is drawn through this pin.", 8 +IN (in) "Ampli?er Noninverting Input. Must be tied to the system load end of the sense resistor. The +IN pin has an internal 5k series resistor designed to allow large input voltage transients or accidental disconnection of the sense (See Datasheet)"

## LTC6102HMS8#TR
designator U?
Single Channel, Precision, Zero Drift Current Sense Operational Amplifier, 0.14 MHz Typical GBW, 4 to 60 V, 8-Pin SOP (MS8-8), High Temperature / Automotive, Reel; Linear Technology Part Number: LTC6102; Manufacturer: Linear Technology; PartNumber: LTC6102HMS8#TR; Channels (#): 1; GBW (MHz) Typical: 0.14; Is (mA) Typical: 0.275; Vos (mV) Typical: 0.003; Vs Max (V): 60; Vs Min (V): 4; DatasheetVersion: Rev. D; PackageVersion: Rev G; PackageReference: LT-MS8-8; PackageDescription: 8-Lead Plastic Small Outline, Body 3.9 x 4.9 mm, Pitch 1.27 mm; Supplier 1: Newark; Supplier Part Number 1: 02P7622; Packing: Reel; Type: CSA; Mounting Technology: Surface Mount; ComponentLink1Description: Manufacturer URL; ComponentLink1URL: http://www.linear.com/; ComponentLink2Description: Datasheet; ComponentLink2URL: http://cds.linear.com/docs/en/datasheet/6102fd.pdf; ComponentLink3Description: Package Specification; ComponentLink3URL: http://cds.linear.com/docs/en/packaging/05081610_G_SO8.pdf
footprint LT-MS8-8_N (SOP, 8-Leads, Body 3x3mm, Pitch 0.65mm, IPC Medium Density)
footprint LT-MS8-8_L (SOP, 8-Leads, Body 3x3mm, Pitch 0.65mm, IPC High Density)
footprint LT-MS8-8_M (SOP, 8-Leads, Body 3x3mm, Pitch 0.65mm, IPC Low Density)
pins: 1 -INS (in) "Ampli? er Inverting Input. When tied to -INF, the internal sense ampli? er will drive -INS to the same potential as +IN.", 2 -INF (in) "Force Input. This pin carries the input current from RIN and must be tied to -INS near RIN. A resistor (RIN) tied from V+ to -INF sets the output current IOUT = VSENSE/RIN. VSENSE is the voltage across the external RSENSE.", 3 V- (power) "Negative Supply.", 4 OUT (oc) "Open-Drain Current output. OUT will source a current that is proportional to the sense voltage into an external resistor. IOUT is the same current that enters -INF", 5 V- (power) "Negative Supply", 6 VREG (power) "Internal Regulated Supply. A 0.1uF (or larger) capacitor should be tied from VREG to V+. VREG is not designed to drive external circuits.", 7 V+ (power) "Positive Supply. Supply current is drawn through this pin.", 8 +IN (in) "Ampli?er Noninverting Input. Must be tied to the system load end of the sense resistor. The +IN pin has an internal 5k series resistor designed to allow large input voltage transients or accidental disconnection of the sense (See Datasheet)"

## LTC6102HMS8#TRPBF
designator U?
Single Channel, Precision, Zero Drift Current Sense Operational Amplifier, 0.14 MHz Typical GBW, 4 to 60 V, 8-Pin SOP (MS8-8), High Temperature / Automotive, Pb-Free, Reel; Linear Technology Part Number: LTC6102; Manufacturer: Linear Technology; PartNumber: LTC6102HMS8#TRPBF; Channels (#): 1; GBW (MHz) Typical: 0.14; Is (mA) Typical: 0.275; Vos (mV) Typical: 0.003; Vs Max (V): 60; Vs Min (V): 4; DatasheetVersion: Rev. D; PackageVersion: Rev G; PackageReference: LT-MS8-8; PackageDescription: 8-Lead Plastic Small Outline, Body 3.9 x 4.9 mm, Pitch 1.27 mm; Supplier 1: Digi-Key; Supplier Part Number 1: LTC6102HMS8#TRPBF-ND; Supplier 2: Newark; Supplier Part Number 2: 56M9931; Packing: Reel; RoHS: Pb-Free; Type: CSA; Mounting Technology: Surface Mount; ComponentLink1Description: Manufacturer URL; ComponentLink1URL: http://www.linear.com/; ComponentLink2Description: Datasheet; ComponentLink2URL: http://cds.linear.com/docs/en/datasheet/6102fd.pdf; ComponentLink3Description: Package Specification; ComponentLink3URL: http://cds.linear.com/docs/en/packaging/05081610_G_SO8.pdf
footprint LT-MS8-8_N (SOP, 8-Leads, Body 3x3mm, Pitch 0.65mm, IPC Medium Density)
footprint LT-MS8-8_L (SOP, 8-Leads, Body 3x3mm, Pitch 0.65mm, IPC High Density)
footprint LT-MS8-8_M (SOP, 8-Leads, Body 3x3mm, Pitch 0.65mm, IPC Low Density)
pins: 1 -INS (in) "Ampli? er Inverting Input. When tied to -INF, the internal sense ampli? er will drive -INS to the same potential as +IN.", 2 -INF (in) "Force Input. This pin carries the input current from RIN and must be tied to -INS near RIN. A resistor (RIN) tied from V+ to -INF sets the output current IOUT = VSENSE/RIN. VSENSE is the voltage across the external RSENSE.", 3 V- (power) "Negative Supply.", 4 OUT (oc) "Open-Drain Current output. OUT will source a current that is proportional to the sense voltage into an external resistor. IOUT is the same current that enters -INF", 5 V- (power) "Negative Supply", 6 VREG (power) "Internal Regulated Supply. A 0.1uF (or larger) capacitor should be tied from VREG to V+. VREG is not designed to drive external circuits.", 7 V+ (power) "Positive Supply. Supply current is drawn through this pin.", 8 +IN (in) "Ampli?er Noninverting Input. Must be tied to the system load end of the sense resistor. The +IN pin has an internal 5k series resistor designed to allow large input voltage transients or accidental disconnection of the sense (See Datasheet)"

## LTC6102HMS8-1#PBF
designator U?
Single Channel, Precision, Zero Drift Current Sense Operational Amplifier, 0.14 MHz Typical GBW, 4 to 60 V, 8-Pin SOP (MS8-8), High Temperature / Automotive, Pb-Free; Linear Technology Part Number: LTC6102; Manufacturer: Linear Technology; PartNumber: LTC6102HMS8-1#PBF; Channels (#): 1; GBW (MHz) Typical: 0.14; Is (mA) Typical: 0.275; Vos (mV) Typical: 0.003; Vs Max (V): 60; Vs Min (V): 4; DatasheetVersion: Rev. D; PackageVersion: Rev G; PackageReference: LT-MS8-8; PackageDescription: 8-Lead Plastic Small Outline, Body 3.9 x 4.9 mm, Pitch 1.27 mm; Supplier 1: Digi-Key; Supplier Part Number 1: LTC6102HMS8-1#PBF-ND; Supplier 2: Newark; Supplier Part Number 2: 71P2240; RoHS: Pb-Free; Type: CSA; Mounting Technology: Surface Mount; ComponentLink1Description: Manufacturer URL; ComponentLink1URL: http://www.linear.com/; ComponentLink2Description: Datasheet; ComponentLink2URL: http://cds.linear.com/docs/en/datasheet/6102fd.pdf; ComponentLink3Description: Package Specification; ComponentLink3URL: http://cds.linear.com/docs/en/packaging/05081610_G_SO8.pdf
footprint LT-MS8-8_N (SOP, 8-Leads, Body 3x3mm, Pitch 0.65mm, IPC Medium Density)
footprint LT-MS8-8_L (SOP, 8-Leads, Body 3x3mm, Pitch 0.65mm, IPC High Density)
footprint LT-MS8-8_M (SOP, 8-Leads, Body 3x3mm, Pitch 0.65mm, IPC Low Density)
pins: 1 -INS (in) "Ampli? er Inverting Input. When tied to -INF, the internal sense ampli? er will drive -INS to the same potential as +IN.", 2 -INF (in) "Force Input. This pin carries the input current from RIN and must be tied to -INS near RIN. A resistor (RIN) tied from V+ to -INF sets the output current IOUT = VSENSE/RIN. VSENSE is the voltage across the external RSENSE.", 3 V- (power) "Negative Supply.", 4 OUT (oc) "Open-Drain Current output. OUT will source a current that is proportional to the sense voltage into an external resistor. IOUT is the same current that enters -INF", 5 V- (power) "Negative Supply", 6 VREG (power) "Internal Regulated Supply. A 0.1uF (or larger) capacitor should be tied from VREG to V+. VREG is not designed to drive external circuits.", 7 V+ (power) "Positive Supply. Supply current is drawn through this pin.", 8 +IN (in) "Ampli?er Noninverting Input. Must be tied to the system load end of the sense resistor. The +IN pin has an internal 5k series resistor designed to allow large input voltage transients or accidental disconnection of the sense (See Datasheet)"

## LTC6102HMS8-1#TRPBF
designator U?
Single Channel, Precision, Zero Drift Current Sense Operational Amplifier, 0.14 MHz Typical GBW, 4 to 60 V, 8-Pin SOP (MS8-8), High Temperature / Automotive, Pb-Free, Reel; Linear Technology Part Number: LTC6102; Manufacturer: Linear Technology; PartNumber: LTC6102HMS8-1#TRPBF; Channels (#): 1; GBW (MHz) Typical: 0.14; Is (mA) Typical: 0.275; Vos (mV) Typical: 0.003; Vs Max (V): 60; Vs Min (V): 4; DatasheetVersion: Rev. D; PackageVersion: Rev G; PackageReference: LT-MS8-8; PackageDescription: 8-Lead Plastic Small Outline, Body 3.9 x 4.9 mm, Pitch 1.27 mm; Supplier 1: Digi-Key; Supplier Part Number 1: LTC6102HMS8-1#TRPBF-ND; Packing: Reel; RoHS: Pb-Free; Type: CSA; Mounting Technology: Surface Mount; ComponentLink1Description: Manufacturer URL; ComponentLink1URL: http://www.linear.com/; ComponentLink2Description: Datasheet; ComponentLink2URL: http://cds.linear.com/docs/en/datasheet/6102fd.pdf; ComponentLink3Description: Package Specification; ComponentLink3URL: http://cds.linear.com/docs/en/packaging/05081610_G_SO8.pdf
footprint LT-MS8-8_N (SOP, 8-Leads, Body 3x3mm, Pitch 0.65mm, IPC Medium Density)
footprint LT-MS8-8_L (SOP, 8-Leads, Body 3x3mm, Pitch 0.65mm, IPC High Density)
footprint LT-MS8-8_M (SOP, 8-Leads, Body 3x3mm, Pitch 0.65mm, IPC Low Density)
pins: 1 -INS (in) "Ampli? er Inverting Input. When tied to -INF, the internal sense ampli? er will drive -INS to the same potential as +IN.", 2 -INF (in) "Force Input. This pin carries the input current from RIN and must be tied to -INS near RIN. A resistor (RIN) tied from V+ to -INF sets the output current IOUT = VSENSE/RIN. VSENSE is the voltage across the external RSENSE.", 3 V- (power) "Negative Supply.", 4 OUT (oc) "Open-Drain Current output. OUT will source a current that is proportional to the sense voltage into an external resistor. IOUT is the same current that enters -INF", 5 V- (power) "Negative Supply", 6 VREG (power) "Internal Regulated Supply. A 0.1uF (or larger) capacitor should be tied from VREG to V+. VREG is not designed to drive external circuits.", 7 V+ (power) "Positive Supply. Supply current is drawn through this pin.", 8 +IN (in) "Ampli?er Noninverting Input. Must be tied to the system load end of the sense resistor. The +IN pin has an internal 5k series resistor designed to allow large input voltage transients or accidental disconnection of the sense (See Datasheet)"

## LTC6102HVCMS8#PBF
designator U?
Single Channel, Precision, Zero Drift Current Sense Operational Amplifier, 0.14 MHz Typical GBW, 4 to 60 V, 8-Pin SOP (MS8-8), Commercial, Pb-Free; Linear Technology Part Number: LTC6102HV; Manufacturer: Linear Technology; PartNumber: LTC6102HVCMS8#PBF; Channels (#): 1; GBW (MHz) Typical: 0.14; Is (mA) Typical: 0.275; Vos (mV) Typical: 0.003; Vs Max (V): 60; Vs Min (V): 4; DatasheetVersion: Rev. D; PackageVersion: Rev G; PackageReference: LT-MS8-8; PackageDescription: 8-Lead Plastic Small Outline, Body 3.9 x 4.9 mm, Pitch 1.27 mm; Supplier 1: Digi-Key; Supplier Part Number 1: LTC6102HVCMS8#PBF-ND; Supplier 2: Newark; Supplier Part Number 2: 56M9934; RoHS: Pb-Free; Type: CSA; Mounting Technology: Surface Mount; ComponentLink1Description: Manufacturer URL; ComponentLink1URL: http://www.linear.com/; ComponentLink2Description: Datasheet; ComponentLink2URL: http://cds.linear.com/docs/en/datasheet/6102fd.pdf; ComponentLink3Description: Package Specification; ComponentLink3URL: http://cds.linear.com/docs/en/packaging/05081610_G_SO8.pdf
footprint LT-MS8-8_N (SOP, 8-Leads, Body 3x3mm, Pitch 0.65mm, IPC Medium Density)
footprint LT-MS8-8_L (SOP, 8-Leads, Body 3x3mm, Pitch 0.65mm, IPC High Density)
footprint LT-MS8-8_M (SOP, 8-Leads, Body 3x3mm, Pitch 0.65mm, IPC Low Density)
pins: 1 -INS (in) "Amplier Inverting Input. When tied to -INF,  the internal sense amplier will drive -INS to the same  potential as +IN", 2 -INF (in) "Force Input. This pin carries the input  current from RIN and must be tied to -INS near RIN. A  resistor (RIN) tied from V +  to -INF sets the output current  IOUT = VSENSE/RIN. VSENSE is the voltage across the external (See Datasheet)", 3 V- (power) "Negative Supply.", 4 OUT (oe) "Open-Drain Current output. OUT will source  a current that is proportional to the sense voltage into  an external resistor. IOUT is the same current that enters  -INF.", 5 V- (power) "Negative Supply.", 6 VREG (power) "Internal Regulated Supply. A 0.1µF (or larger) capacitor should be tied from VREG to V+. VREG is not designed to drive external circuits.", 7 V+ (power) "Positive Supply. Supply current is drawn  through this pin", 8 +IN (in) "Amplier Noninverting Input. Must be tied  to the system load end of the sense resistor. The +IN pin  has an internal 5k series resistor designed to allow large  input voltage transients or accidental disconnection of the  (See Datasheet)"

## LTC6102HVCMS8#TRPBF
designator U?
Single Channel, Precision, Zero Drift Current Sense Operational Amplifier, 0.14 MHz Typical GBW, 4 to 60 V, 8-Pin SOP (MS8-8), Commercial, Pb-Free, Reel; Linear Technology Part Number: LTC6102HV; Manufacturer: Linear Technology; PartNumber: LTC6102HVCMS8#TRPBF; Channels (#): 1; GBW (MHz) Typical: 0.14; Is (mA) Typical: 0.275; Vos (mV) Typical: 0.003; Vs Max (V): 60; Vs Min (V): 4; DatasheetVersion: Rev. D; PackageVersion: Rev G; PackageReference: LT-MS8-8; PackageDescription: 8-Lead Plastic Small Outline, Body 3.9 x 4.9 mm, Pitch 1.27 mm; Supplier 1: Digi-Key; Supplier Part Number 1: LTC6102HVCMS8#TRPBF-ND; Packing: Reel; RoHS: Pb-Free; Type: CSA; Mounting Technology: Surface Mount; ComponentLink1Description: Manufacturer URL; ComponentLink1URL: http://www.linear.com/; ComponentLink2Description: Datasheet; ComponentLink2URL: http://cds.linear.com/docs/en/datasheet/6102fd.pdf; ComponentLink3Description: Package Specification; ComponentLink3URL: http://cds.linear.com/docs/en/packaging/05081610_G_SO8.pdf
footprint LT-MS8-8_N (SOP, 8-Leads, Body 3x3mm, Pitch 0.65mm, IPC Medium Density)
footprint LT-MS8-8_L (SOP, 8-Leads, Body 3x3mm, Pitch 0.65mm, IPC High Density)
footprint LT-MS8-8_M (SOP, 8-Leads, Body 3x3mm, Pitch 0.65mm, IPC Low Density)
pins: 1 -INS (in) "Amplier Inverting Input. When tied to -INF,  the internal sense amplier will drive -INS to the same  potential as +IN", 2 -INF (in) "Force Input. This pin carries the input  current from RIN and must be tied to -INS near RIN. A  resistor (RIN) tied from V +  to -INF sets the output current  IOUT = VSENSE/RIN. VSENSE is the voltage across the external (See Datasheet)", 3 V- (power) "Negative Supply.", 4 OUT (oe) "Open-Drain Current output. OUT will source  a current that is proportional to the sense voltage into  an external resistor. IOUT is the same current that enters  -INF.", 5 V- (power) "Negative Supply.", 6 VREG (power) "Internal Regulated Supply. A 0.1µF (or larger) capacitor should be tied from VREG to V+. VREG is not designed to drive external circuits.", 7 V+ (power) "Positive Supply. Supply current is drawn  through this pin", 8 +IN (in) "Amplier Noninverting Input. Must be tied  to the system load end of the sense resistor. The +IN pin  has an internal 5k series resistor designed to allow large  input voltage transients or accidental disconnection of the  (See Datasheet)"